# EAGLE library part AS-ITM-00173 (library tinycircuits)
RF101001 ANTENNA CONNECTOR
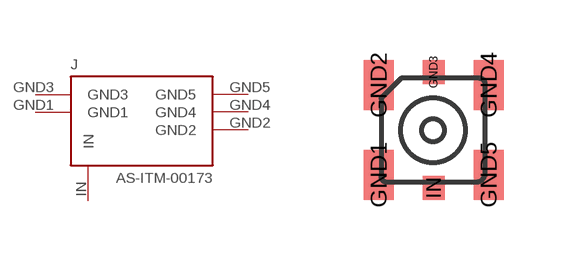
[diagram p76: symbol with the pads of RF101001; footprint RF101001]

Designator prefix J

## AS-ITM-00173 (PARTNO: AS-ITM-00173; VALUE: RF101001)  [RF101001]
GND1  GND1
GND2  GND2
GND3  GND3
GND4  GND4
GND5  GND5
IN  IN

## Footprint RF101001 (pad centres in mm)
smd 0.75 x 1.25: GND1 -1.365,-1.105; GND2 -1.365,1.145; GND4 1.385,1.145; GND5 1.385,-1.105
smd 0.55 x 0.6: GND3 0.01,1.47; IN 0.01,-1.43